# EAGLE library part MCP9600-E_MX (library MCP9600-E_MX)
Board Mount Temperature Sensors Thermocouple to I2C converter Source: Datasheet <https://datasheet.datasheetarchive.com/originals/distributors/DKDS41/DSANUWW0026539.pdf>
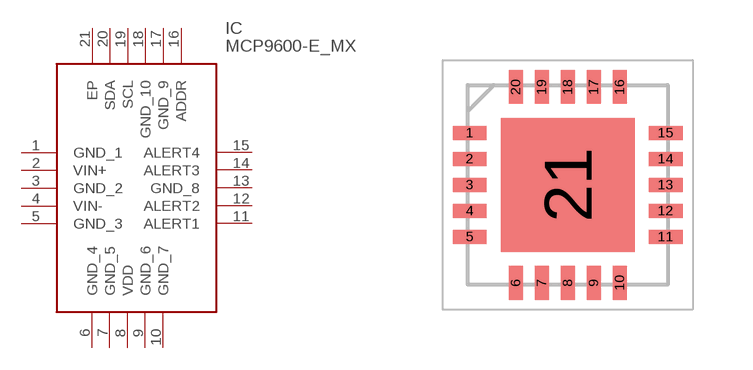
[diagram p0: symbol with the pads of QFN65P500X500X100-21N; footprint QFN65P500X500X100-21N]

Designator prefix IC

## MCP9600-E_MX (Description: Board Mount Temperature Sensors Thermocouple to I2C converter; Height: 1mm; Manufacturer_Name: Microchip; Manufacturer_Part_Number: MCP9600-E/MX; Mouser_Part_Number: 579-MCP9600-E/MX; Mouser_Price-Stock: https://www.mouser.co.uk/ProductDetail/Microchip-Technology/MCP9600-E-MX?qs=ZEMkBHnybREkP7PCRsOOMQ%3D%3D)  [QFN65P500X500X100-21N]
1  GND_1
2  VIN+
3  GND_2
4  VIN-
5  GND_3
6  GND_4
7  GND_5
8  VDD
9  GND_6
10  GND_7
11  ALERT1
12  ALERT2
13  GND_8
14  ALERT3
15  ALERT4
16  ADDR
17  GND_9
18  GND_10
19  SCL
20  SDA
21  EP

## Footprint QFN65P500X500X100-21N (pad centres in mm)
MQFN-20
smd 0.85 x 0.35: 1 -2.45,1.3; 2 -2.45,0.65; 3 -2.45,0; 4 -2.45,-0.65; 5 -2.45,-1.3; 11 2.45,-1.3; 12 2.45,-0.65; 13 2.45,0; 14 2.45,0.65; 15 2.45,1.3
smd 0.35 x 0.85: 6 -1.3,-2.45; 7 -0.65,-2.45; 8 0,-2.45; 9 0.65,-2.45; 10 1.3,-2.45; 16 1.3,2.45; 17 0.65,2.45; 18 0,2.45; 19 -0.65,2.45; 20 -1.3,2.45
smd 3.35 x 3.35: 21 0,0